# Altium integrated library WE-SL5HC.IntLib: 4 symbols
Pins are listed as number, name and electrical type; pins without a type are passive.

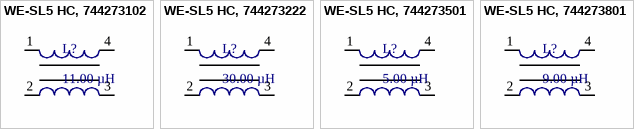
[diagram p0: symbols WE-SL5 HC, 744273102 to WE-SL5 HC, 744273801]

## WE-SL5 HC, 744273102
designator L?, comment 11.00 µH
SMD Common Mode Line Filter WE-SL5 HC, L=11.00 µH; partNo: 744273102; Manufacturer: Würth Elektronik eiSos GmbH; Inductance: 11.00 µH; ComponentLink1Description: Manufacturer; ComponentLink1URL: http://www.we-online.de; Created by: Christin Zierenner; Created Date: March 2012; ComponentLink2Description: Datasheet; ComponentLink2URL: http://www.we-online.de/katalog/media/pdf/744273102.pdf
footprint WE-SL5 HC (SMD Inductor, Body 8,3x9,5mm)
pins: 1, 2, 3, 4

## WE-SL5 HC, 744273222
designator L?, comment 30.00 µH
SMD Common Mode Line Filter WE-SL5 HC, L=30.00 µH; partNo: 744273222; Manufacturer: Würth Elektronik eiSos GmbH; Inductance: 30.00 µH; ComponentLink1Description: Manufacturer; ComponentLink1URL: http://www.we-online.de; Created by: Christin Zierenner; Created Date: March 2012; ComponentLink2Description: Datasheet; ComponentLink2URL: http://www.we-online.de/katalog/media/pdf/744273222.pdf
footprint WE-SL5 HC (SMD Inductor, Body 8,3x9,5mm)
pins: 1, 2, 3, 4

## WE-SL5 HC, 744273501
designator L?, comment 5.00 µH
SMD Common Mode Line Filter WE-SL5 HC, L=5.00 µH; partNo: 744273501; Manufacturer: Würth Elektronik eiSos GmbH; Inductance: 5.00 µH; ComponentLink1Description: Manufacturer; ComponentLink1URL: http://www.we-online.de; Created by: Christin Zierenner; Created Date: November 2009; ComponentLink2Description: Datasheet; ComponentLink2URL: http://www.we-online.de/katalog/media/pdf/744273501.pdf
footprint WE-SL5 HC (SMD Inductor, Body 8,3x9,5mm)
pins: 1, 2, 3, 4

## WE-SL5 HC, 744273801
designator L?, comment 9.00 µH
SMD Common Mode Line Filter WE-SL5 HC, L=9.00 µH; partNo: 744273801; Manufacturer: Würth Elektronik eiSos GmbH; Inductance: 9.00 µH; ComponentLink1Description: Manufacturer; ComponentLink1URL: http://www.we-online.de; Created by: Christin Zierenner; Created Date: November 2009; ComponentLink2Description: Datasheet; ComponentLink2URL: http://www.we-online.de/katalog/media/pdf/744273801.pdf
footprint WE-SL5 HC (SMD Inductor, Body 8,3x9,5mm)
pins: 1, 2, 3, 4